# Altium schematic symbol library Connectors.SchLib: 1 symbol
Pins are listed as number, name and electrical type; pins without a type are passive.

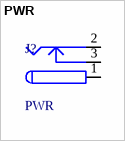
[diagram p0: symbol PWR]

## PWR
designator J?
DC Power Barrel Connector; Part No.: CP-002BHPJCT-ND; Manufacturer: CUI; Vendor: Digi-Key; Notes: PJ-002AH-SMT for 2.1mm ID; Price Est.: $0.90
signal-integrity model Connector
footprint DC Barrel SMT (Footprint not found)
pins: 1 (power), 2 (power), 3 (power)